# Altium integrated library DIGITAL-CLOCK-WITH-7-SEGMENT-DISPLAY.IntLib: 14 symbols
Pins are listed as number, name and electrical type; pins without a type are passive.

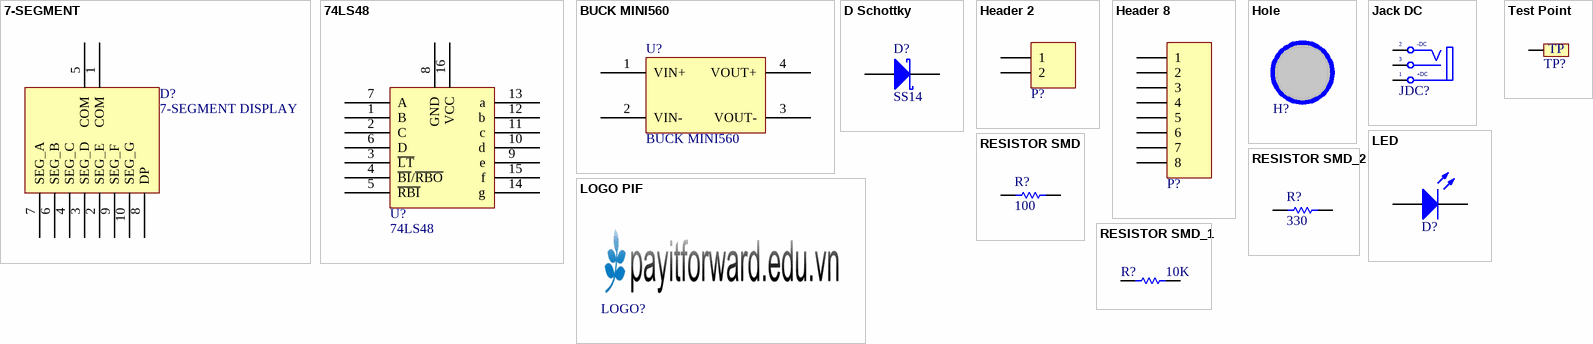
[diagram p0: symbols 7-SEGMENT to Test Point]

## 7-SEGMENT
designator D?, comment 7-SEGMENT DISPLAY
footprint 7-SEGMENT
pins: 1 COM, 2 SEG_E, 3 SEG_D, 4 SEG_C, 5 COM, 6 SEG_B, 7 SEG_A, 8 DP, 9 SEG_F, 10 SEG_G

## 74LS48
designator U?
74LS48 - ACTIVE HIGH
footprint 74LS48
pins: 1 B, 2 C, 3 ~{LT}, 4 ~{BI}/~{RBO}, 5 ~{RBI}, 6 D, 7 A, 8 GND, 9 e, 10 d, 11 c, 12 b, 13 a, 14 g, 15 f, 16 VCC

## BUCK MINI560
designator U?
MODULE BUCK MINI560
footprint BUCK MINI560
pins: 1 VIN+, 2 VIN-, 3 VOUT-, 4 VOUT+

## D Schottky
designator D?  Supplier Part Number 1: SS14  (hidden comment: D Schottky)
Schottky Diode; Published: 8-Jun-2000; LatestRevisionDate: 17-Jul-2002; LatestRevisionNote: Re-released for DXP Platform.; PackageReference: SMB; Publisher: Altium Limited; PackageDescription: DO-214-AA/SMB; 2 C-Bend Leads; Body 5.3 x 3.6 mm, inc. leads (LxW); Code_JEDEC: DO-214-AA; Supplier 1: Arrow Electronics; Supplier 2: RSComponents; Supplier Part Number 2: 8080433
footprint SS34 (DO-214-AC/SMA Molded Diode, Body 5.3x2.6mm, IPC Medium Density)
footprint SS14 (SS12, SS13,SSS14,SS15,SS16,SS18,SS110)
pins: A, K

## Header 2
designator P?  (value not drawn)
Header, 2-Pin; LatestRevisionDate: 17-Jul-2002; LatestRevisionNote: Re-released for DXP Platform.; Publisher: Altium Limited
footprint JP2
pins: 1, 2

## Header 8
designator P?  (value not drawn)
Header, 8-Pin; LatestRevisionDate: 17-Jul-2002; LatestRevisionNote: Re-released for DXP Platform.; Publisher: Altium Limited
footprint JP8
pins: 1, 2, 3, 4, 5, 6, 7, 8

## Hole
designator H?  (value not drawn)
Hole 3mm
footprint LO KHOAN 3MM
pins: 1 hidden

## Jack DC
designator JDC?  (value not drawn)
Jack DC input; Value: Jac DC
footprint DC-IN (Jac DC input)
pins: 1 T "Tip", 2 TN "Tip Normal (Break Contact)", 3 S (power) "Sleeve (Ground)"
text: -DC; +DC

## LED
designator D?  (value not drawn)
footprint LED-3mm (LED 2 PIN, 3ly Only colour)
footprint LED-5mm (LED 2 PIN, 5 ly , Only colour, pin to pin 110mil)
pins: 1 A, 2 K

## LOGO PIF
designator LOGO?  (value not drawn)
footprint PIF LOGO SMALL TOP
footprint PIF LOGO BIG SSTOP
footprint PIF LOGO BIG TOP
footprint PIF LOGO SMALL TOP

## RESISTOR SMD
designator R?  value 100  (hidden comment: RESISTOR SMD)
Resistor
footprint RES-SM-0603
footprint RES-SM-0805
footprint RES-SM-1206
footprint RES-SM-2010 (, 2-Leads, Body 5.18x3.00mm, IPC Medium Density)
footprint RES-SM-2512 (, 2-Leads, Body 8.00x3.00mm, IPC Medium Density)
pins: 1, 2

## RESISTOR SMD_1
designator R?, comment value 10K  (hidden comment: RESISTOR SMD)
Resistor
footprint RES-SM-0603
footprint RES-SM-0805
footprint RES-SM-1206
footprint RES-SM-2010 (, 2-Leads, Body 5.18x3.00mm, IPC Medium Density)
footprint RES-SM-2512 (, 2-Leads, Body 8.00x3.00mm, IPC Medium Density)
pins: 1, 2

## RESISTOR SMD_2
designator R?, comment value 330  (hidden comment: RESISTOR SMD)
Resistor
footprint RES-SM-0603
footprint RES-SM-0805
footprint RES-SM-1206
footprint RES-SM-2010 (, 2-Leads, Body 5.18x3.00mm, IPC Medium Density)
footprint RES-SM-2512 (, 2-Leads, Body 8.00x3.00mm, IPC Medium Density)
pins: 1, 2

## Test Point
designator TP?  (value not drawn)
footprint TP (Connect 1)
pins: TP1 0
text: TP